# Altium schematic symbol library U_XBP9B-DMST-022.SchLib: 1 symbol
Pins are listed as number, name and electrical type; pins without a type are passive.

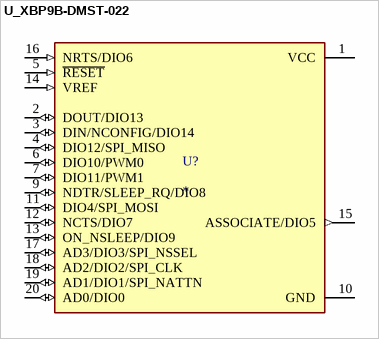
[diagram p0: symbol U_XBP9B-DMST-022]

## U_XBP9B-DMST-022
designator U?
XBee-PRO 900HP DigiMesh 900 MHz 200 Kbps RF Module with U.FL Connector; MP: XBP9B-DMST-022; Package: None; Price: None; Value: *; Availability: Unavailable
footprint DIP2200W51P200L3294H279Q20P
pins: 1 VCC (power), 2 DOUT/DIO13 (io), 3 DIN/NCONFIG/DIO14 (io), 4 DIO12/SPI_MISO (io), 5 ~{RESET} (in), 6 DIO10/PWM0 (io), 7 DIO11/PWM1 (io), 9 NDTR/SLEEP_RQ/DIO8 (io), 10 GND (power), 11 DIO4/SPI_MOSI (io), 12 NCTS/DIO7 (io), 13 ON_NSLEEP/DIO9 (io), 14 VREF (in), 15 ASSOCIATE/DIO5 (out), 16 NRTS/DIO6 (in), 17 AD3/DIO3/SPI_NSSEL (io), 18 AD2/DIO2/SPI_CLK (io), 19 AD1/DIO1/SPI_NATTN (io), 20 AD0/DIO0 (io)